# EAGLE library part 1825360-3 (library Switches)
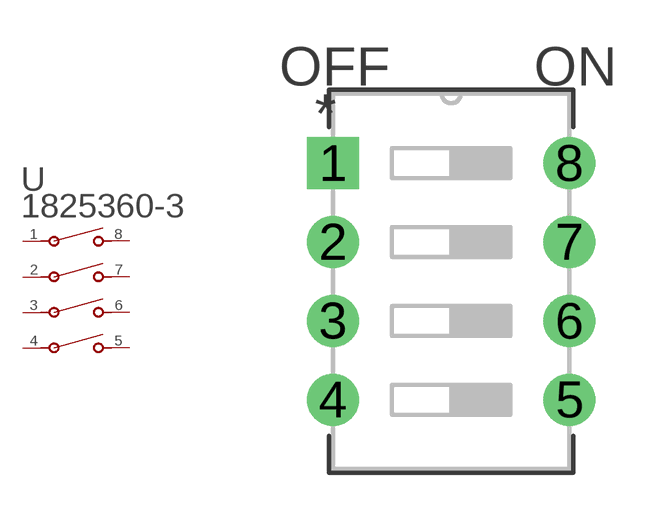
[diagram p6: symbol with the pads of SWDIP8_300X185P100; footprint SWDIP8_300X185P100]

Designator prefix U

## 1825360-3 (BUILT_BY: EMA_UL_Team; CATEGORY: DIP & SIP Switches; COPYRIGHT: Copyright (C) 2016 Accelerated Designs. All rights reserved; DESCRIPTION: ADE04A04=4POS DIP SWITCH; MANUFACTURER_PART_NUMBER: 1825360-3; PART_STATUS: active; SERIES: Alcoswitch DIP,Alcoswitch DIP ADE; VENDOR: TE Connectivity)  [SWDIP8_300X185P100]
1  1  pas
2  2  pas
3  3  pas
4  4  pas
5  5  pas
6  6  pas
7  7  pas
8  8  pas

## Footprint SWDIP8_300X185P100 (pad centres in mm)
drill 0.965 pad 1.676 square: 1 -7.62,7.62
drill 0.965 pad 1.676: 2 -7.62,5.08; 3 -7.62,2.54; 4 -7.62,0; 5 0,0; 6 0,2.54; 7 0,5.08; 8 0,7.62